# EAGLE library part STM32F373V8 (library Rebel)
IC MCU, 32BIT, 1MB FLASH, 100LQFP
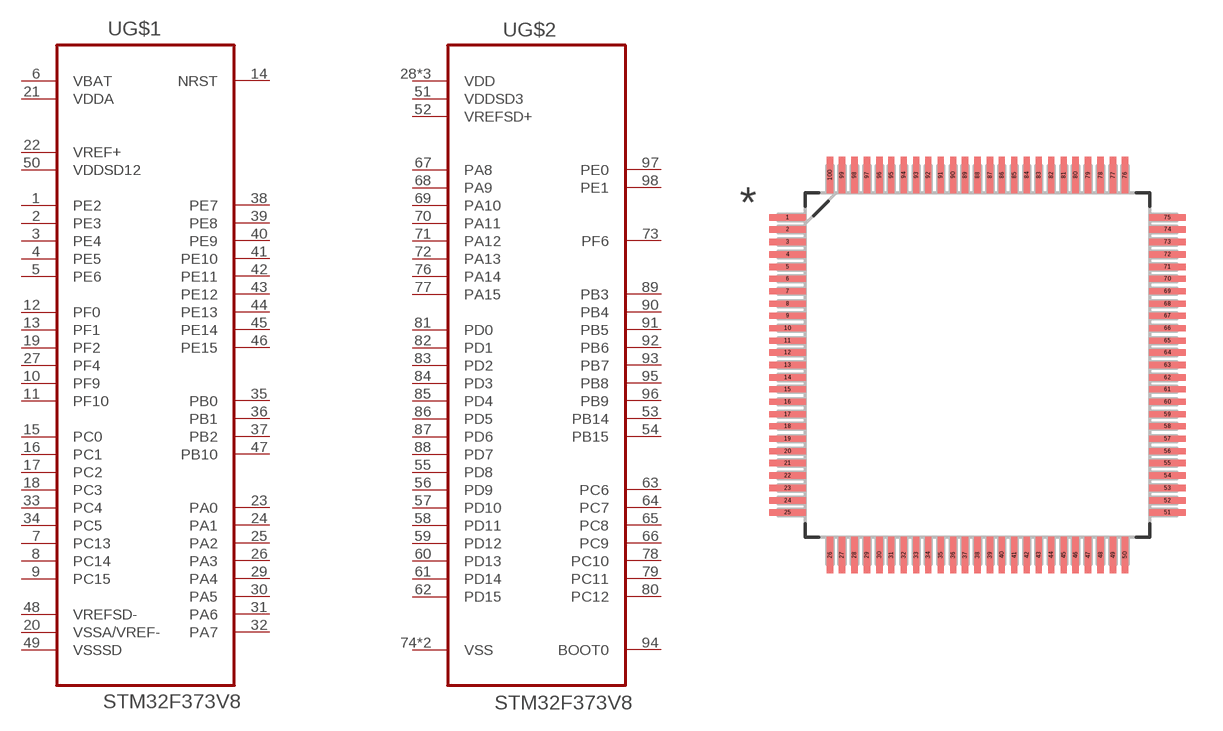
[diagram p38: symbol with the pads of QFP50P1600X1600X160-100N; footprint QFP50P1600X1600X160-100N]

Designator prefix U; gates G$1=STM32F373V8_A G$2=STM32F373V8_B

## STM32F373V8 (MPN: STM32F373V8; PACKAGE: 100LQFP; SUPPLIER: STMicroelectronics)  [QFP50P1600X1600X160-100N]
1  G$1:PE2
2  G$1:PE3
3  G$1:PE4
4  G$1:PE5
5  G$1:PE6
6  G$1:VBAT  pwr
7  G$1:PC13
8  G$1:PC14
9  G$1:PC15
10  G$1:PF9
11  G$1:PF10
12  G$1:PF0
13  G$1:PF1
14  G$1:NRST
15  G$1:PC0
16  G$1:PC1
17  G$1:PC2
18  G$1:PC3
19  G$1:PF2
20  G$1:VSSA/VREF-  pas
21  G$1:VDDA  pwr
22  G$1:VREF+  pwr
23  G$1:PA0
24  G$1:PA1
25  G$1:PA2
26  G$1:PA3
27  G$1:PF4
28  G$2:VDD  pwr
29  G$1:PA4
30  G$1:PA5
31  G$1:PA6
32  G$1:PA7
33  G$1:PC4
34  G$1:PC5
35  G$1:PB0
36  G$1:PB1
37  G$1:PB2
38  G$1:PE7
39  G$1:PE8
40  G$1:PE9
41  G$1:PE10
42  G$1:PE11
43  G$1:PE12
44  G$1:PE13
45  G$1:PE14
46  G$1:PE15
47  G$1:PB10
48  G$1:VREFSD-  pas
49  G$1:VSSSD  pas
50  G$1:VDDSD12  pas
51  G$2:VDDSD3  pwr
52  G$2:VREFSD+  pwr
53  G$2:PB14
54  G$2:PB15
55  G$2:PD8
56  G$2:PD9
57  G$2:PD10
58  G$2:PD11
59  G$2:PD12
60  G$2:PD13
61  G$2:PD14
62  G$2:PD15
63  G$2:PC6
64  G$2:PC7
65  G$2:PC8
66  G$2:PC9
67  G$2:PA8
68  G$2:PA9
69  G$2:PA10
70  G$2:PA11
71  G$2:PA12
72  G$2:PA13
73  G$2:PF6
74  G$2:VSS  pas
75  G$2:VDD  pwr
76  G$2:PA14
77  G$2:PA15
78  G$2:PC10
79  G$2:PC11
80  G$2:PC12
81  G$2:PD0
82  G$2:PD1
83  G$2:PD2
84  G$2:PD3
85  G$2:PD4
86  G$2:PD5
87  G$2:PD6
88  G$2:PD7
89  G$2:PB3
90  G$2:PB4
91  G$2:PB5
92  G$2:PB6
93  G$2:PB7
94  G$2:BOOT0  in
95  G$2:PB8
96  G$2:PB9
97  G$2:PE0
98  G$2:PE1
99  G$2:VSS  pas
100  G$2:VDD  pwr

## Footprint QFP50P1600X1600X160-100N (pad centres in mm)
smd 1.473 x 0.254: 1 -7.722,5.994; 2 -7.722,5.512; 3 -7.722,5.004; 4 -7.722,4.496; 5 -7.722,3.988; 6 -7.722,3.505; 7 -7.722,2.997; 8 -7.722,2.489; 9 -7.722,2.007; 10 -7.722,1.499; 11 -7.722,0.991; 12 -7.722,0.508; 13 -7.722,0; 14 -7.722,-0.508; 15 -7.722,-0.991; 16 -7.722,-1.499; 17 -7.722,-2.007; 18 -7.722,-2.489; 19 -7.722,-2.997; 20 -7.722,-3.505; 21 -7.722,-3.988; 22 -7.722,-4.496; 23 -7.722,-5.004; 24 -7.722,-5.512; 25 -7.722,-5.994; 51 7.722,-5.994; 52 7.722,-5.512; 53 7.722,-5.004; 54 7.722,-4.496; 55 7.722,-3.988; 56 7.722,-3.505; 57 7.722,-2.997; 58 7.722,-2.489; 59 7.722,-2.007; 60 7.722,-1.499; 61 7.722,-0.991; 62 7.722,-0.508; 63 7.722,0; 64 7.722,0.508; 65 7.722,0.991; 66 7.722,1.499; 67 7.722,2.007; 68 7.722,2.489; 69 7.722,2.997; 70 7.722,3.505; 71 7.722,3.988; 72 7.722,4.496; 73 7.722,5.004; 74 7.722,5.512; 75 7.722,5.994
smd 0.254 x 1.473: 26 -5.994,-7.722; 27 -5.512,-7.722; 28 -5.004,-7.722; 29 -4.496,-7.722; 30 -3.988,-7.722; 31 -3.505,-7.722; 32 -2.997,-7.722; 33 -2.489,-7.722; 34 -2.007,-7.722; 35 -1.499,-7.722; 36 -0.991,-7.722; 37 -0.508,-7.722; 38 0,-7.722; 39 0.508,-7.722; 40 0.991,-7.722; 41 1.499,-7.722; 42 2.007,-7.722; 43 2.489,-7.722; 44 2.997,-7.722; 45 3.505,-7.722; 46 3.988,-7.722; 47 4.496,-7.722; 48 5.004,-7.722; 49 5.512,-7.722; 50 5.994,-7.722; 76 5.994,7.722; 77 5.512,7.722; 78 5.004,7.722; 79 4.496,7.722; 80 3.988,7.722; 81 3.505,7.722; 82 2.997,7.722; 83 2.489,7.722; 84 2.007,7.722; 85 1.499,7.722; 86 0.991,7.722; 87 0.508,7.722; 88 0,7.722; 89 -0.508,7.722; 90 -0.991,7.722; 91 -1.499,7.722; 92 -2.007,7.722; 93 -2.489,7.722; 94 -2.997,7.722; 95 -3.505,7.722; 96 -3.988,7.722; 97 -4.496,7.722; 98 -5.004,7.722; 99 -5.512,7.722; 100 -5.994,7.722